# EAGLE library part ADS8322 (library ti-ads8322)
Texas Instruments ADS-8322 16-Bit, 500kHz ANALOG-TO-DIGITAL CONVERTER Features: high-speed parallel interface 500kHz sampling rate low power: 85mW at 500kHz internal 2.5V reference unipolar input range TQFP-32 package Package: TQFP-32 Based on the following source: SBAS215A-JULY 2001-REVISED JANUARY 2010 Created by: Bastian Göricke
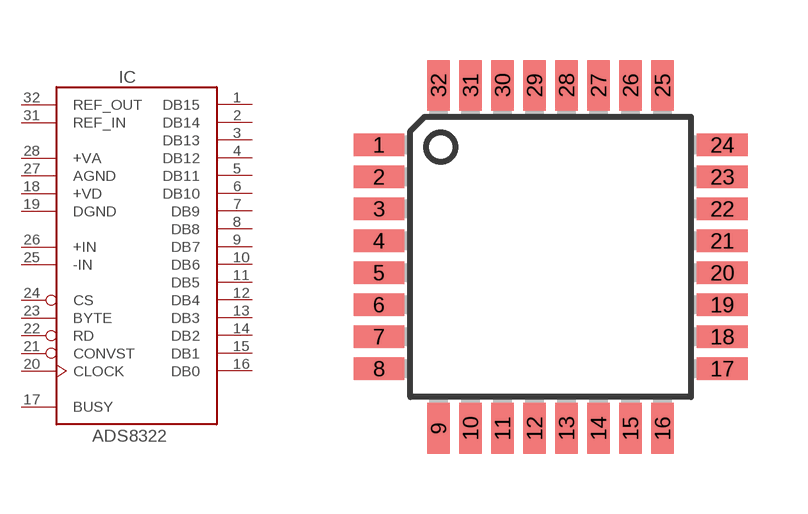
[diagram p0: symbol with the pads of TQFP-32; footprint TQFP-32]

Designator prefix IC

## ADS8322  [TQFP-32]
1  DB15  out
2  DB14  out
3  DB13  out
4  DB12  out
5  DB11  out
6  DB10  out
7  DB9  out
8  DB8  out
9  DB7  out
10  DB6  out
11  DB5  out
12  DB4  out
13  DB3  out
14  DB2  out
15  DB1  out
16  DB0  out
17  BUSY  out
18  +VD  pwr
19  DGND  pwr
20  CLOCK  in
21  CONVST  in
22  RD  in
23  BYTE  in
24  CS  in
25  -IN  in
26  +IN  in
27  AGND  pwr
28  +VA  pwr
31  REF_IN
32  REF_OUT

## Footprint TQFP-32 (pad centres in mm)
TQFP-32 Package
smd 1.27 x 0.559: 1 -4.293,2.8; 2 -4.293,2; 3 -4.293,1.2; 4 -4.293,0.4; 5 -4.293,-0.4; 6 -4.293,-1.2; 7 -4.293,-2; 8 -4.293,-2.8; 17 4.293,-2.8; 18 4.293,-2; 19 4.293,-1.2; 20 4.293,-0.4; 21 4.293,0.4; 22 4.293,1.2; 23 4.293,2; 24 4.293,2.8
smd 0.559 x 1.27: 9 -2.8,-4.293; 10 -2,-4.293; 11 -1.2,-4.293; 12 -0.4,-4.293; 13 0.4,-4.293; 14 1.2,-4.293; 15 2,-4.293; 16 2.8,-4.293; 25 2.8,4.293; 26 2,4.293; 27 1.2,4.293; 28 0.4,4.293; 29 -0.4,4.293; 30 -1.2,4.293; 31 -2,4.293; 32 -2.8,4.293